# Altium schematic symbol library SCH - POWER - SWITCHMODE - TI TPS61043_DRB_8.SchLib: 1 symbol
Pins are listed as number, name and electrical type; pins without a type are passive.

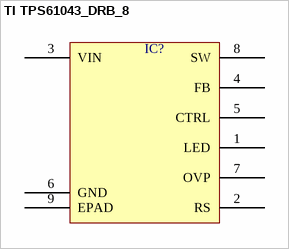
[diagram p0: symbol TI TPS61043_DRB_8]

## TI TPS61043_DRB_8
designator IC?  (value not drawn)
pins: 1 LED, 2 RS, 3 VIN, 4 FB, 5 CTRL, 6 GND, 7 OVP, 8 SW, 9 EPAD